# EAGLE library part 1-2301994-0 (library TE)
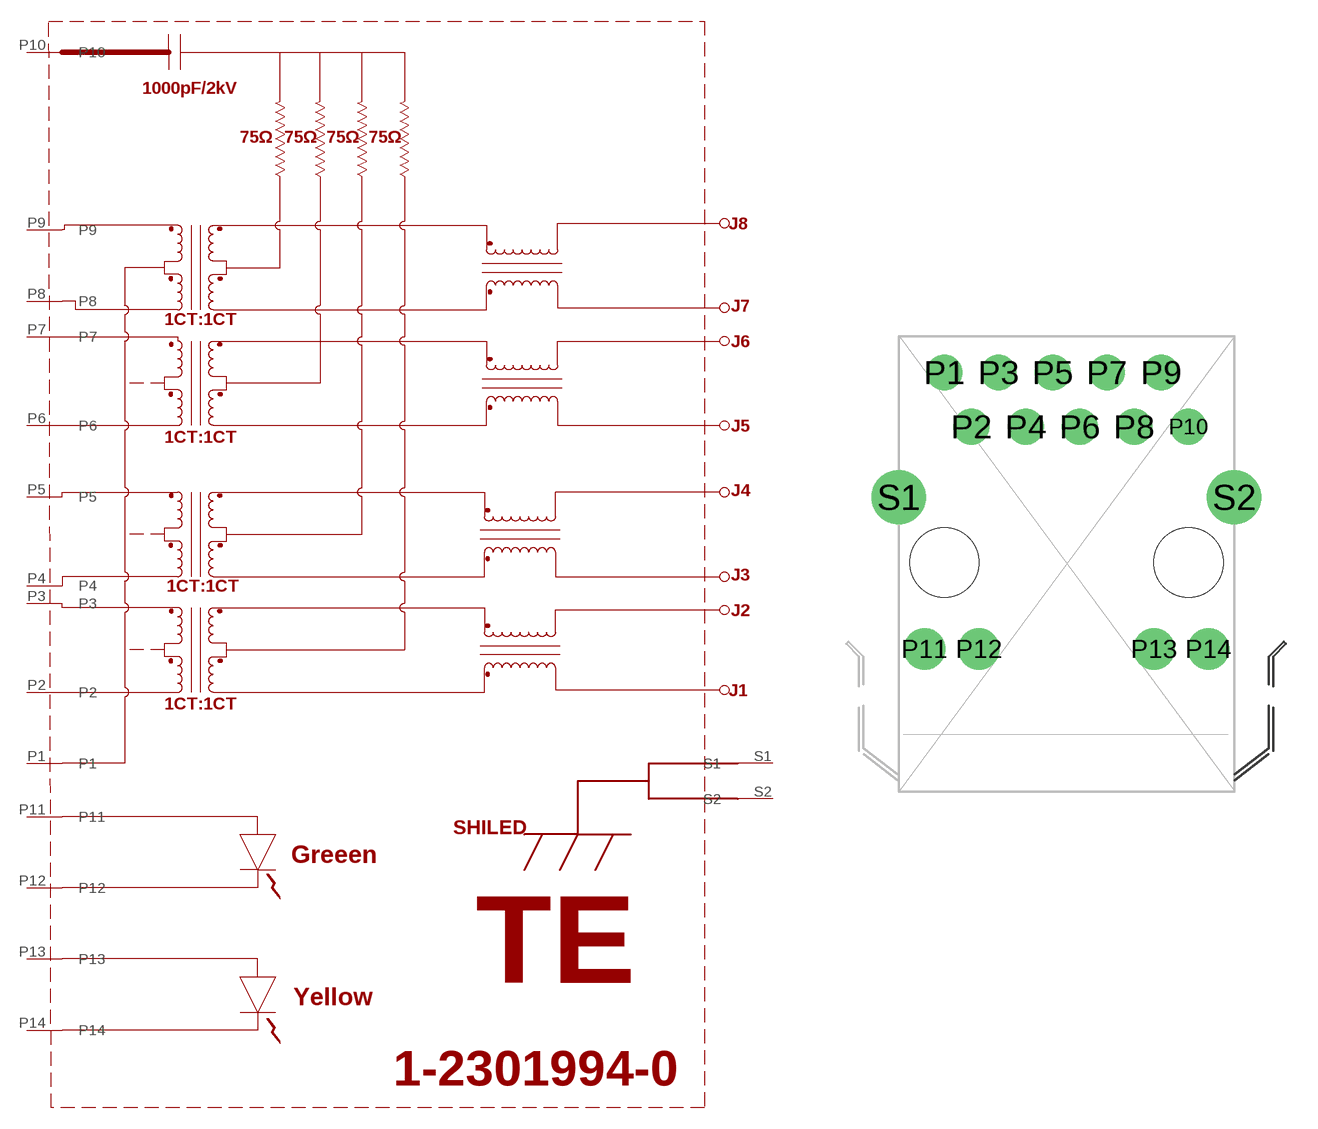
[diagram p0: symbol with the pads of 1-2301994-0; footprint 1-2301994-0]

Designator prefix -

## 1-2301994-0  [1-2301994-0]
P1  P1
P2  P2
P3  P3
P4  P4
P5  P5
P6  P6
P7  P7
P8  P8
P9  P9
P10  P10
P11  P11
P12  P12
P13  P13
P14  P14
S1  S1
S2  S2

## Footprint 1-2301994-0 (pad centres in mm)
drill 0.9 pad 1.676: P1 0,0; P2 1.27,-2.54; P3 2.54,0; P4 3.81,-2.54; P5 5.08,0; P6 6.35,-2.54; P7 7.62,0; P8 8.89,-2.54; P9 10.16,0; P10 11.43,-2.54
drill 1.2 pad 1.93: P11 -0.93,-12.95; P12 1.62,-12.95; P13 9.82,-12.95; P14 12.37,-12.95
drill 1.6 pad 2.54: S1 -2.14,-5.84; S2 13.57,-5.84